# EAGLE library part LTC1860-SO8 (library Neel)
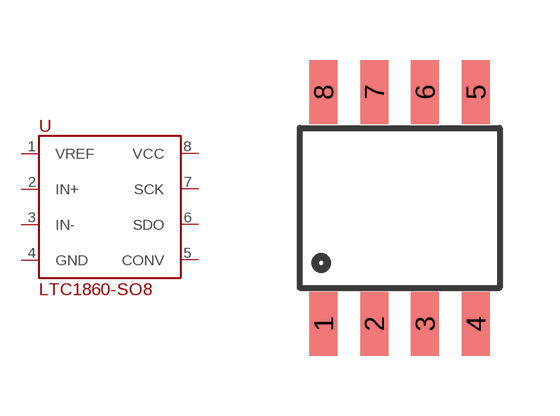
[diagram p38: symbol with the pads of SO-8; footprint SO-8]

Designator prefix -

## LTC1860-SO8  [SO-8]
1  VREF
2  IN+
3  IN-
4  GND
5  CONV
6  SDO
7  SCK
8  VCC

## Footprint SO-8 (pad centres in mm)
smd 0.7 x 1.6: 1 -1.905,-2.9; 2 -0.635,-2.9; 3 0.635,-2.9; 4 1.905,-2.9; 5 1.905,2.9; 6 0.635,2.9; 7 -0.635,2.9; 8 -1.905,2.9